# Altium integrated library WE-TPC.IntLib: 262 symbols (part 2 of 3)
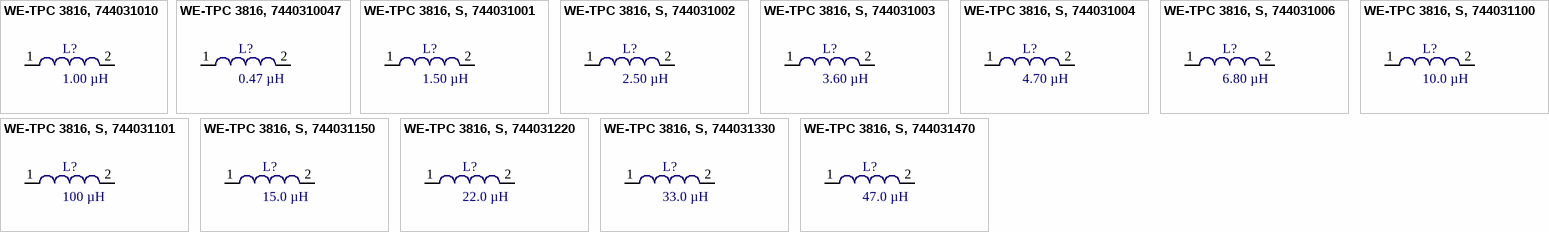
[diagram p16: symbols WE-TPC 3816, 744031010 to WE-TPC 3816, S, 744031470]

## WE-TPC 3816, S, 744031101
designator L?, comment 100 µH
SMD Shielded Tiny Power Inductor WE-TPC, L=100 µH; partNo: 744031101; Manufacturer: Würth Elektronik eiSos GmbH; Inductance: 100 µH; ComponentLink1Description: Manufacturer; ComponentLink1URL: http://www.we-online.de; Created by: Christin Zierenner; Created Date: July 2009; ComponentLink2Description: Datasheet; ComponentLink2URL: http://www.we-online.de/katalog/media/pdf/744031101.pdf
footprint WE-TPC 3816, S (SMD Inductor, 2-Leads, Body 3,8x3,8mm)
pins: 1, 2

## WE-TPC 3816, S, 744031150
designator L?, comment 15.0 µH
SMD Shielded Tiny Power Inductor WE-TPC, L=15.0 µH; partNo: 744031150; Manufacturer: Würth Elektronik eiSos GmbH; Inductance: 15.0 µH; ComponentLink1Description: Manufacturer; ComponentLink1URL: http://www.we-online.de; Created by: Christin Zierenner; Created Date: July 2009; ComponentLink2Description: Datasheet; ComponentLink2URL: http://www.we-online.de/katalog/media/pdf/744031150.pdf
footprint WE-TPC 3816, S (SMD Inductor, 2-Leads, Body 3,8x3,8mm)
pins: 1, 2

## WE-TPC 3816, S, 744031220
designator L?, comment 22.0 µH
SMD Shielded Tiny Power Inductor WE-TPC, L=22.0 µH; partNo: 744031220; Manufacturer: Würth Elektronik eiSos GmbH; Inductance: 22.0 µH; ComponentLink1Description: Manufacturer; ComponentLink1URL: http://www.we-online.de; Created by: Christin Zierenner; Created Date: July 2009; ComponentLink2Description: Datasheet; ComponentLink2URL: http://www.we-online.de/katalog/media/pdf/744031220.pdf
footprint WE-TPC 3816, S (SMD Inductor, 2-Leads, Body 3,8x3,8mm)
pins: 1, 2

## WE-TPC 3816, S, 744031330
designator L?, comment 33.0 µH
SMD Shielded Tiny Power Inductor WE-TPC, L=33.0 µH; partNo: 744031330; Manufacturer: Würth Elektronik eiSos GmbH; Inductance: 33.0 µH; ComponentLink1Description: Manufacturer; ComponentLink1URL: http://www.we-online.de; Created by: Christin Zierenner; Created Date: July 2009; ComponentLink2Description: Datasheet; ComponentLink2URL: http://www.we-online.de/katalog/media/pdf/744031330.pdf
footprint WE-TPC 3816, S (SMD Inductor, 2-Leads, Body 3,8x3,8mm)
pins: 1, 2

## WE-TPC 3816, S, 744031470
designator L?, comment 47.0 µH
SMD Shielded Tiny Power Inductor WE-TPC, L=47.0 µH; partNo: 744031470; Manufacturer: Würth Elektronik eiSos GmbH; Inductance: 47.0 µH; ComponentLink1Description: Manufacturer; ComponentLink1URL: http://www.we-online.de; Created by: Christin Zierenner; Created Date: July 2009; ComponentLink2Description: Datasheet; ComponentLink2URL: http://www.we-online.de/katalog/media/pdf/744031470.pdf
footprint WE-TPC 3816, S (SMD Inductor, 2-Leads, Body 3,8x3,8mm)
pins: 1, 2


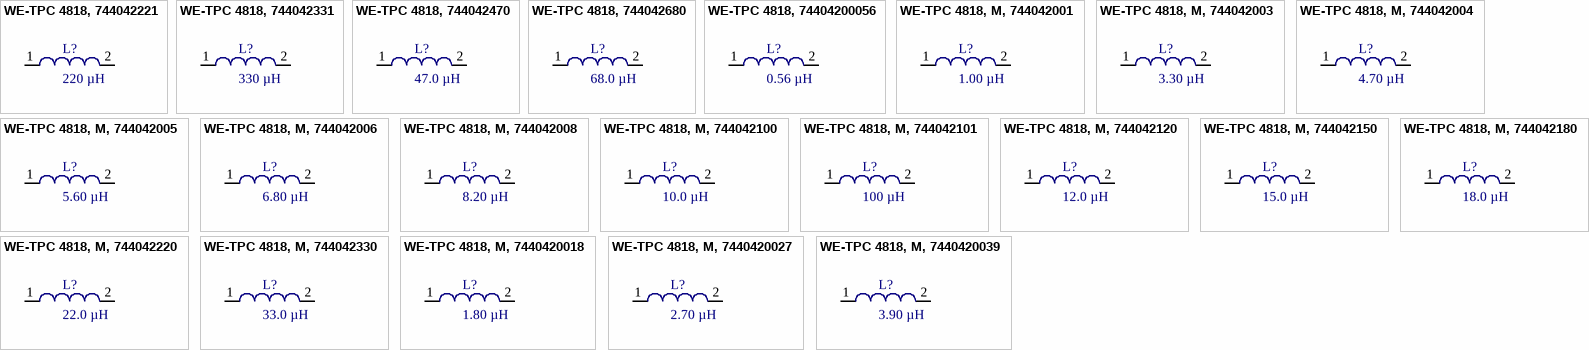
[diagram p7: symbols WE-TPC 4818, 744042221 to WE-TPC 4818, M, 7440420039]

## WE-TPC 4818, 744042221
designator L?, comment 220 µH
SMD Shielded Tiny Power Inductor WE-TPC, L=220 µH; partNo: 744042221; Manufacturer: Würth Elektronik eiSos GmbH; Inductance: 220 µH; ComponentLink1Description: Manufacturer; ComponentLink1URL: http://www.we-online.de; Created by: Christin Otto; Created Date: January 2013; ComponentLink2Description: Datasheet; ComponentLink2URL: http://www.we-online.de/katalog/media/pdf/744042221.pdf
footprint WE-TPC 4818, M (SMD Inductor, 2-Leads, Body 4,8x4,8mm)
pins: 1, 2

## WE-TPC 4818, 744042331
designator L?, comment 330 µH
SMD Shielded Tiny Power Inductor WE-TPC, L=330 µH; partNo: 744042331; Manufacturer: Würth Elektronik eiSos GmbH; Inductance: 330 µH; ComponentLink1Description: Manufacturer; ComponentLink1URL: http://www.we-online.de; Created by: Christin Otto; Created Date: January 2013; ComponentLink2Description: Datasheet; ComponentLink2URL: http://www.we-online.de/katalog/media/pdf/744042331.pdf
footprint WE-TPC 4818, M (SMD Inductor, 2-Leads, Body 4,8x4,8mm)
pins: 1, 2

## WE-TPC 4818, 744042470
designator L?, comment 47.0 µH
SMD Shielded Tiny Power Inductor WE-TPC, L=47.0 µH; partNo: 744042470; Manufacturer: Würth Elektronik eiSos GmbH; Inductance: 47.0 µH; ComponentLink1Description: Manufacturer; ComponentLink1URL: http://www.we-online.de; Created by: Christin Otto; Created Date: January 2013; ComponentLink2Description: Datasheet; ComponentLink2URL: http://www.we-online.de/katalog/media/pdf/744042470.pdf
footprint WE-TPC 4818, M (SMD Inductor, 2-Leads, Body 4,8x4,8mm)
pins: 1, 2

## WE-TPC 4818, 744042680
designator L?, comment 68.0 µH
SMD Shielded Tiny Power Inductor WE-TPC, L=68.0 µH; partNo: 744042680; Manufacturer: Würth Elektronik eiSos GmbH; Inductance: 68.0 µH; ComponentLink1Description: Manufacturer; ComponentLink1URL: http://www.we-online.de; Created by: Christin Otto; Created Date: January 2013; ComponentLink2Description: Datasheet; ComponentLink2URL: http://www.we-online.de/katalog/media/pdf/744042680.pdf
footprint WE-TPC 4818, M (SMD Inductor, 2-Leads, Body 4,8x4,8mm)
pins: 1, 2

## WE-TPC 4818, 74404200056
designator L?, comment 0.56 µH
SMD Shielded Tiny Power Inductor WE-TPC, L=0.56 µH; partNo: 74404200056; Manufacturer: Würth Elektronik eiSos GmbH; Inductance: 0.56 µH; ComponentLink1Description: Manufacturer; ComponentLink1URL: http://www.we-online.de; Created by: Christin Otto; Created Date: January 2013; ComponentLink2Description: Datasheet; ComponentLink2URL: http://www.we-online.de/katalog/media/pdf/74404200056.pdf
footprint WE-TPC 4818, M (SMD Inductor, 2-Leads, Body 4,8x4,8mm)
pins: 1, 2

## WE-TPC 4818, M, 744042001
designator L?, comment 1.00 µH
SMD Shielded Tiny Power Inductor WE-TPC, L=1.00 µH; partNo: 744042001; Manufacturer: Würth Elektronik eiSos GmbH; Inductance: 1.00 µH; ComponentLink1Description: Manufacturer; ComponentLink1URL: http://www.we-online.de; Created by: Christin Zierenner; Created Date: July 2009; ComponentLink2Description: Datasheet; ComponentLink2URL: http://www.we-online.de/katalog/media/pdf/744042001.pdf
footprint WE-TPC 4818, M (SMD Inductor, 2-Leads, Body 4,8x4,8mm)
pins: 1, 2

## WE-TPC 4818, M, 744042003
designator L?, comment 3.30 µH
SMD Shielded Tiny Power Inductor WE-TPC, L=3.30 µH; partNo: 744042003; Manufacturer: Würth Elektronik eiSos GmbH; Inductance: 3.30 µH; ComponentLink1Description: Manufacturer; ComponentLink1URL: http://www.we-online.de; Created by: Christin Zierenner; Created Date: July 2009; ComponentLink2Description: Datasheet; ComponentLink2URL: http://www.we-online.de/katalog/media/pdf/744042003.pdf
footprint WE-TPC 4818, M (SMD Inductor, 2-Leads, Body 4,8x4,8mm)
pins: 1, 2

## WE-TPC 4818, M, 744042004
designator L?, comment 4.70 µH
SMD Shielded Tiny Power Inductor WE-TPC, L=4.70 µH; partNo: 744042004; Manufacturer: Würth Elektronik eiSos GmbH; Inductance: 4.70 µH; ComponentLink1Description: Manufacturer; ComponentLink1URL: http://www.we-online.de; Created by: Christin Zierenner; Created Date: July 2009; ComponentLink2Description: Datasheet; ComponentLink2URL: http://www.we-online.de/katalog/media/pdf/744042004.pdf
footprint WE-TPC 4818, M (SMD Inductor, 2-Leads, Body 4,8x4,8mm)
pins: 1, 2

## WE-TPC 4818, M, 744042005
designator L?, comment 5.60 µH
SMD Shielded Tiny Power Inductor WE-TPC, L=5.60 µH; partNo: 744042005; Manufacturer: Würth Elektronik eiSos GmbH; Inductance: 5.60 µH; ComponentLink1Description: Manufacturer; ComponentLink1URL: http://www.we-online.de; Created by: Christin Zierenner; Created Date: July 2009; ComponentLink2Description: Datasheet; ComponentLink2URL: http://www.we-online.de/katalog/media/pdf/744042005.pdf
footprint WE-TPC 4818, M (SMD Inductor, 2-Leads, Body 4,8x4,8mm)
pins: 1, 2

## WE-TPC 4818, M, 744042006
designator L?, comment 6.80 µH
SMD Shielded Tiny Power Inductor WE-TPC, L=6.80 µH; partNo: 744042006; Manufacturer: Würth Elektronik eiSos GmbH; Inductance: 6.80 µH; ComponentLink1Description: Manufacturer; ComponentLink1URL: http://www.we-online.de; Created by: Christin Zierenner; Created Date: July 2009; ComponentLink2Description: Datasheet; ComponentLink2URL: http://www.we-online.de/katalog/media/pdf/744042006.pdf
footprint WE-TPC 4818, M (SMD Inductor, 2-Leads, Body 4,8x4,8mm)
pins: 1, 2

## WE-TPC 4818, M, 744042008
designator L?, comment 8.20 µH
SMD Shielded Tiny Power Inductor WE-TPC, L=8.20 µH; partNo: 744042008; Manufacturer: Würth Elektronik eiSos GmbH; Inductance: 8.20 µH; ComponentLink1Description: Manufacturer; ComponentLink1URL: http://www.we-online.de; Created by: Christin Zierenner; Created Date: July 2009; ComponentLink2Description: Datasheet; ComponentLink2URL: http://www.we-online.de/katalog/media/pdf/744042008.pdf
footprint WE-TPC 4818, M (SMD Inductor, 2-Leads, Body 4,8x4,8mm)
pins: 1, 2

## WE-TPC 4818, M, 744042100
designator L?, comment 10.0 µH
SMD Shielded Tiny Power Inductor WE-TPC, L=10.0 µH; partNo: 744042100; Manufacturer: Würth Elektronik eiSos GmbH; Inductance: 10.0 µH; ComponentLink1Description: Manufacturer; ComponentLink1URL: http://www.we-online.de; Created by: Christin Zierenner; Created Date: July 2009; ComponentLink2Description: Datasheet; ComponentLink2URL: http://www.we-online.de/katalog/media/pdf/744042100.pdf
footprint WE-TPC 4818, M (SMD Inductor, 2-Leads, Body 4,8x4,8mm)
pins: 1, 2

## WE-TPC 4818, M, 744042101
designator L?, comment 100 µH
SMD Shielded Tiny Power Inductor WE-TPC, L=100 µH; partNo: 744042101; Manufacturer: Würth Elektronik eiSos GmbH; Inductance: 100 µH; ComponentLink1Description: Manufacturer; ComponentLink1URL: http://www.we-online.de; Created by: Christin Zierenner; Created Date: July 2009; ComponentLink2Description: Datasheet; ComponentLink2URL: http://www.we-online.de/katalog/media/pdf/744042101.pdf
footprint WE-TPC 4818, M (SMD Inductor, 2-Leads, Body 4,8x4,8mm)
pins: 1, 2

## WE-TPC 4818, M, 744042120
designator L?, comment 12.0 µH
SMD Shielded Tiny Power Inductor WE-TPC, L=12.0 µH; partNo: 744042120; Manufacturer: Würth Elektronik eiSos GmbH; Inductance: 12.0 µH; ComponentLink1Description: Manufacturer; ComponentLink1URL: http://www.we-online.de; Created by: Christin Zierenner; Created Date: July 2009; ComponentLink2Description: Datasheet; ComponentLink2URL: http://www.we-online.de/katalog/media/pdf/744042120.pdf
footprint WE-TPC 4818, M (SMD Inductor, 2-Leads, Body 4,8x4,8mm)
pins: 1, 2

## WE-TPC 4818, M, 744042150
designator L?, comment 15.0 µH
SMD Shielded Tiny Power Inductor WE-TPC, L=15.0 µH; partNo: 744042150; Manufacturer: Würth Elektronik eiSos GmbH; Inductance: 15.0 µH; ComponentLink1Description: Manufacturer; ComponentLink1URL: http://www.we-online.de; Created by: Christin Zierenner; Created Date: July 2009; ComponentLink2Description: Datasheet; ComponentLink2URL: http://www.we-online.de/katalog/media/pdf/744042150.pdf
footprint WE-TPC 4818, M (SMD Inductor, 2-Leads, Body 4,8x4,8mm)
pins: 1, 2

## WE-TPC 4818, M, 744042180
designator L?, comment 18.0 µH
SMD Shielded Tiny Power Inductor WE-TPC, L=18.0 µH; partNo: 744042180; Manufacturer: Würth Elektronik eiSos GmbH; Inductance: 18.0 µH; ComponentLink1Description: Manufacturer; ComponentLink1URL: http://www.we-online.de; Created by: Christin Zierenner; Created Date: July 2009; ComponentLink2Description: Datasheet; ComponentLink2URL: http://www.we-online.de/katalog/media/pdf/744042180.pdf
footprint WE-TPC 4818, M (SMD Inductor, 2-Leads, Body 4,8x4,8mm)
pins: 1, 2

## WE-TPC 4818, M, 744042220
designator L?, comment 22.0 µH
SMD Shielded Tiny Power Inductor WE-TPC, L=22.0 µH; partNo: 744042220; Manufacturer: Würth Elektronik eiSos GmbH; Inductance: 22.0 µH; ComponentLink1Description: Manufacturer; ComponentLink1URL: http://www.we-online.de; Created by: Christin Zierenner; Created Date: July 2009; ComponentLink2Description: Datasheet; ComponentLink2URL: http://www.we-online.de/katalog/media/pdf/744042220.pdf
footprint WE-TPC 4818, M (SMD Inductor, 2-Leads, Body 4,8x4,8mm)
pins: 1, 2

## WE-TPC 4818, M, 744042330
designator L?, comment 33.0 µH
SMD Shielded Tiny Power Inductor WE-TPC, L=33.0 µH; partNo: 744042330; Manufacturer: Würth Elektronik eiSos GmbH; Inductance: 33.0 µH; ComponentLink1Description: Manufacturer; ComponentLink1URL: http://www.we-online.de; Created by: Christin Zierenner; Created Date: July 2009; ComponentLink2Description: Datasheet; ComponentLink2URL: http://www.we-online.de/katalog/media/pdf/744042330.pdf
footprint WE-TPC 4818, M (SMD Inductor, 2-Leads, Body 4,8x4,8mm)
pins: 1, 2

## WE-TPC 4818, M, 7440420018
designator L?, comment 1.80 µH
SMD Shielded Tiny Power Inductor WE-TPC, L=1.80 µH; partNo: 7440420018; Manufacturer: Würth Elektronik eiSos GmbH; Inductance: 1.80 µH; ComponentLink1Description: Manufacturer; ComponentLink1URL: http://www.we-online.de; Created by: Christin Zierenner; Created Date: July 2009; ComponentLink2Description: Datasheet; ComponentLink2URL: http://www.we-online.de/katalog/media/pdf/7440420018.pdf
footprint WE-TPC 4818, M (SMD Inductor, 2-Leads, Body 4,8x4,8mm)
pins: 1, 2

## WE-TPC 4818, M, 7440420027
designator L?, comment 2.70 µH
SMD Shielded Tiny Power Inductor WE-TPC, L=2.70 µH; partNo: 7440420027; Manufacturer: Würth Elektronik eiSos GmbH; Inductance: 2.70 µH; ComponentLink1Description: Manufacturer; ComponentLink1URL: http://www.we-online.de; Created by: Christin Zierenner; Created Date: July 2009; ComponentLink2Description: Datasheet; ComponentLink2URL: http://www.we-online.de/katalog/media/pdf/7440420027.pdf
footprint WE-TPC 4818, M (SMD Inductor, 2-Leads, Body 4,8x4,8mm)
pins: 1, 2

## WE-TPC 4818, M, 7440420039
designator L?, comment 3.90 µH
SMD Shielded Tiny Power Inductor WE-TPC, L=3.90 µH; partNo: 7440420039; Manufacturer: Würth Elektronik eiSos GmbH; Inductance: 3.90 µH; ComponentLink1Description: Manufacturer; ComponentLink1URL: http://www.we-online.de; Created by: Christin Zierenner; Created Date: July 2009; ComponentLink2Description: Datasheet; ComponentLink2URL: http://www.we-online.de/katalog/media/pdf/7440420039.pdf
footprint WE-TPC 4818, M (SMD Inductor, 2-Leads, Body 4,8x4,8mm)
pins: 1, 2


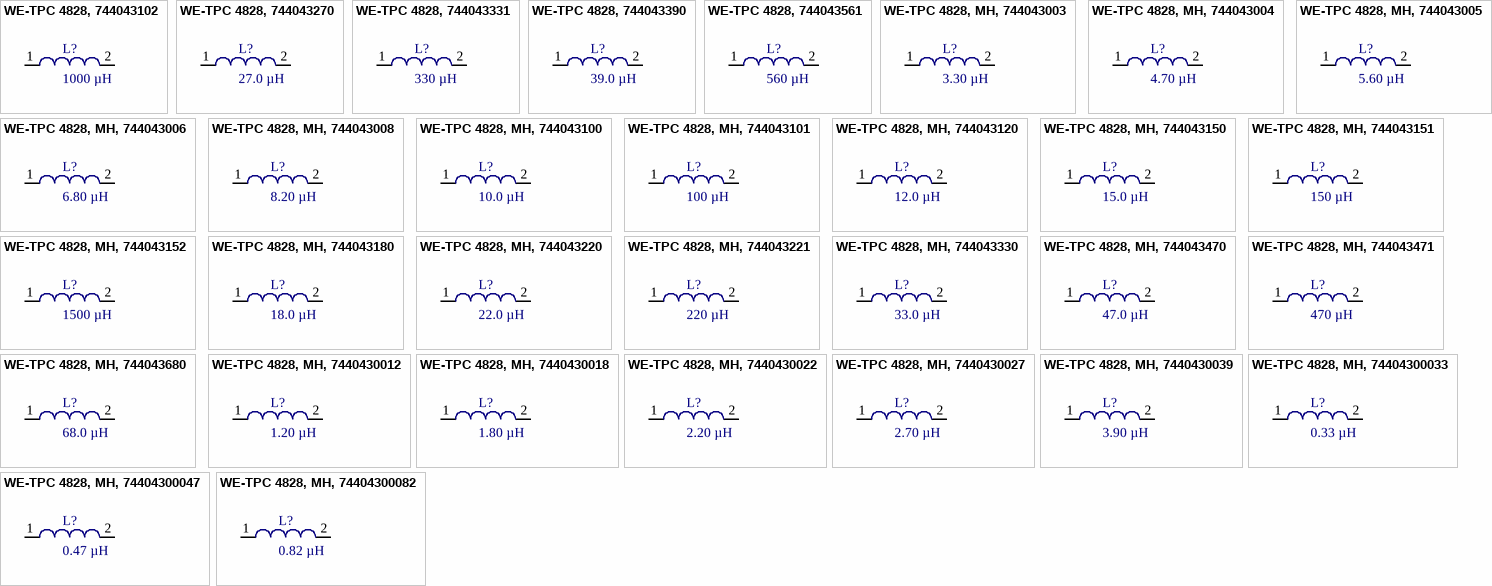
[diagram p8: symbols WE-TPC 4828, 744043102 to WE-TPC 4828, MH, 74404300082]

## WE-TPC 4828, 744043102
designator L?, comment 1000 µH
SMD Shielded Tiny Power Inductor WE-TPC, L=1000 µH; partNo: 744043102; Manufacturer: Würth Elektronik eiSos GmbH; Inductance: 1000 µH; ComponentLink1Description: Manufacturer; ComponentLink1URL: http://www.we-online.de; Created by: Christin Otto; Created Date: January 2013; ComponentLink2Description: Datasheet; ComponentLink2URL: http://katalog.we-online.de/pbs/datasheet/744043102.pdf
footprint WE-TPC 4828, MH (SMD Inductor, 2-Leads, Body 4,8x4,8mm)
pins: 1, 2

## WE-TPC 4828, 744043270
designator L?, comment 27.0 µH
SMD Shielded Tiny Power Inductor WE-TPC, L=27.0 µH; partNo: 744043270; Manufacturer: Würth Elektronik eiSos GmbH; Inductance: 27.0 µH; ComponentLink1Description: Manufacturer; ComponentLink1URL: http://www.we-online.de; Created by: Christin Otto; Created Date: January 2013; ComponentLink2Description: Datasheet; ComponentLink2URL: http://katalog.we-online.de/pbs/datasheet/744043270.pdf
footprint WE-TPC 4828, MH (SMD Inductor, 2-Leads, Body 4,8x4,8mm)
pins: 1, 2

## WE-TPC 4828, 744043331
designator L?, comment 330 µH
SMD Shielded Tiny Power Inductor WE-TPC, L=330 µH; partNo: 744043331; Manufacturer: Würth Elektronik eiSos GmbH; Inductance: 330 µH; ComponentLink1Description: Manufacturer; ComponentLink1URL: http://www.we-online.de; Created by: Christin Otto; Created Date: January 2013; ComponentLink2Description: Datasheet; ComponentLink2URL: http://katalog.we-online.de/pbs/datasheet/744043331.pdf
footprint WE-TPC 4828, MH (SMD Inductor, 2-Leads, Body 4,8x4,8mm)
pins: 1, 2

## WE-TPC 4828, 744043390
designator L?, comment 39.0 µH
SMD Shielded Tiny Power Inductor WE-TPC, L=39.0 µH; partNo: 744043390; Manufacturer: Würth Elektronik eiSos GmbH; Inductance: 39.0 µH; ComponentLink1Description: Manufacturer; ComponentLink1URL: http://www.we-online.de; Created by: Christin Otto; Created Date: January 2013; ComponentLink2Description: Datasheet; ComponentLink2URL: http://katalog.we-online.de/pbs/datasheet/744043390.pdf
footprint WE-TPC 4828, MH (SMD Inductor, 2-Leads, Body 4,8x4,8mm)
pins: 1, 2

## WE-TPC 4828, 744043561
designator L?, comment 560 µH
SMD Shielded Tiny Power Inductor WE-TPC, L=560 µH; partNo: 744043561; Manufacturer: Würth Elektronik eiSos GmbH; Inductance: 560 µH; ComponentLink1Description: Manufacturer; ComponentLink1URL: http://www.we-online.de; Created by: Christin Otto; Created Date: January 2013; ComponentLink2Description: Datasheet; ComponentLink2URL: http://katalog.we-online.de/pbs/datasheet/744043561.pdf
footprint WE-TPC 4828, MH (SMD Inductor, 2-Leads, Body 4,8x4,8mm)
pins: 1, 2

## WE-TPC 4828, MH, 744043003
designator L?, comment 3.30 µH
SMD Shielded Tiny Power Inductor WE-TPC, L=3.30µH; partNo: 744043003; Manufacturer: Würth Elektronik eiSos GmbH; Inductance: 3.30 µH; ComponentLink1Description: Manufacturer; ComponentLink1URL: http://www.we-online.de; Created by: Christin Zierenner; Created Date: July 2009; ComponentLink2Description: Datasheet; ComponentLink2URL: http://www.we-online.de/katalog/media/pdf/744043003.pdf
footprint WE-TPC 4828, MH (SMD Inductor, 2-Leads, Body 4,8x4,8mm)
pins: 1, 2

## WE-TPC 4828, MH, 744043004
designator L?, comment 4.70 µH
SMD Shielded Tiny Power Inductor WE-TPC, L=4.70 µH; partNo: 744043004; Manufacturer: Würth Elektronik eiSos GmbH; Inductance: 4.70 µH; ComponentLink1Description: Manufacturer; ComponentLink1URL: http://www.we-online.de; Created by: Christin Zierenner; Created Date: July 2009; ComponentLink2Description: Datasheet; ComponentLink2URL: http://www.we-online.de/katalog/media/pdf/744043004.pdf
footprint WE-TPC 4828, MH (SMD Inductor, 2-Leads, Body 4,8x4,8mm)
pins: 1, 2

## WE-TPC 4828, MH, 744043005
designator L?, comment 5.60 µH
SMD Shielded Tiny Power Inductor WE-TPC, L=5.60 µH; partNo: 744043005; Manufacturer: Würth Elektronik eiSos GmbH; Inductance: 5.60 µH; ComponentLink1Description: Manufacturer; ComponentLink1URL: http://www.we-online.de; Created by: Christin Zierenner; Created Date: July 2009; ComponentLink2Description: Datasheet; ComponentLink2URL: http://www.we-online.de/katalog/media/pdf/744043005.pdf
footprint WE-TPC 4828, MH (SMD Inductor, 2-Leads, Body 4,8x4,8mm)
pins: 1, 2

## WE-TPC 4828, MH, 744043006
designator L?, comment 6.80 µH
SMD Shielded Tiny Power Inductor WE-TPC, L=6.80 µH; partNo: 744043006; Manufacturer: Würth Elektronik eiSos GmbH; Inductance: 6.80 µH; ComponentLink1Description: Manufacturer; ComponentLink1URL: http://www.we-online.de; Created by: Christin Zierenner; Created Date: July 2009; ComponentLink2Description: Datasheet; ComponentLink2URL: http://www.we-online.de/katalog/media/pdf/744043006.pdf
footprint WE-TPC 4828, MH (SMD Inductor, 2-Leads, Body 4,8x4,8mm)
pins: 1, 2

## WE-TPC 4828, MH, 744043008
designator L?, comment 8.20 µH
SMD Shielded Tiny Power Inductor WE-TPC, L=8.20 µH; partNo: 744043008; Manufacturer: Würth Elektronik eiSos GmbH; Inductance: 8.20 µH; ComponentLink1Description: Manufacturer; ComponentLink1URL: http://www.we-online.de; Created by: Christin Zierenner; Created Date: July 2009; ComponentLink2Description: Datasheet; ComponentLink2URL: http://www.we-online.de/katalog/media/pdf/744043008.pdf
footprint WE-TPC 4828, MH (SMD Inductor, 2-Leads, Body 4,8x4,8mm)
pins: 1, 2

## WE-TPC 4828, MH, 744043100
designator L?, comment 10.0 µH
SMD Shielded Tiny Power Inductor WE-TPC, L=10.0 µH; partNo: 744043100; Manufacturer: Würth Elektronik eiSos GmbH; Inductance: 10.0 µH; ComponentLink1Description: Manufacturer; ComponentLink1URL: http://www.we-online.de; Created by: Christin Zierenner; Created Date: July 2009; ComponentLink2Description: Datasheet; ComponentLink2URL: http://www.we-online.de/katalog/media/pdf/744043100.pdf
footprint WE-TPC 4828, MH (SMD Inductor, 2-Leads, Body 4,8x4,8mm)
pins: 1, 2

## WE-TPC 4828, MH, 744043101
designator L?, comment 100 µH
SMD Shielded Tiny Power Inductor WE-TPC, L=100 µH; partNo: 744043101; Manufacturer: Würth Elektronik eiSos GmbH; Inductance: 100 µH; ComponentLink1Description: Manufacturer; ComponentLink1URL: http://www.we-online.de; Created by: Christin Zierenner; Created Date: July 2009; ComponentLink2Description: Datasheet; ComponentLink2URL: http://www.we-online.de/katalog/media/pdf/744043101.pdf
footprint WE-TPC 4828, MH (SMD Inductor, 2-Leads, Body 4,8x4,8mm)
pins: 1, 2

## WE-TPC 4828, MH, 744043120
designator L?, comment 12.0 µH
SMD Shielded Tiny Power Inductor WE-TPC, L=12.0 µH; partNo: 744043120; Manufacturer: Würth Elektronik eiSos GmbH; Inductance: 12.0 µH; ComponentLink1Description: Manufacturer; ComponentLink1URL: http://www.we-online.de; Created by: Christin Zierenner; Created Date: July 2009; ComponentLink2Description: Datasheet; ComponentLink2URL: http://www.we-online.de/katalog/media/pdf/744043120.pdf
footprint WE-TPC 4828, MH (SMD Inductor, 2-Leads, Body 4,8x4,8mm)
pins: 1, 2

## WE-TPC 4828, MH, 744043150
designator L?, comment 15.0 µH
SMD Shielded Tiny Power Inductor WE-TPC, L=15.0 µH; partNo: 744043150; Manufacturer: Würth Elektronik eiSos GmbH; Inductance: 15.0 µH; ComponentLink1Description: Manufacturer; ComponentLink1URL: http://www.we-online.de; Created by: Christin Zierenner; Created Date: July 2009; ComponentLink2Description: Datasheet; ComponentLink2URL: http://www.we-online.de/katalog/media/pdf/744043150.pdf
footprint WE-TPC 4828, MH (SMD Inductor, 2-Leads, Body 4,8x4,8mm)
pins: 1, 2

## WE-TPC 4828, MH, 744043151
designator L?, comment 150 µH
SMD Shielded Tiny Power Inductor WE-TPC, L=150 µH; partNo: 744043151; Manufacturer: Würth Elektronik eiSos GmbH; Inductance: 150 µH; ComponentLink1Description: Manufacturer; ComponentLink1URL: http://www.we-online.de; Created by: Christin Zierenner; Created Date: July 2009; ComponentLink2Description: Datasheet; ComponentLink2URL: http://www.we-online.de/katalog/media/pdf/744043151.pdf
footprint WE-TPC 4828, MH (SMD Inductor, 2-Leads, Body 4,8x4,8mm)
pins: 1, 2

## WE-TPC 4828, MH, 744043152
designator L?, comment 1500 µH
SMD Shielded Tiny Power Inductor WE-TPC, L=1500 µH; partNo: 744043152; Manufacturer: Würth Elektronik eiSos GmbH; Inductance: 1500 µH; ComponentLink1Description: Manufacturer; ComponentLink1URL: http://www.we-online.de; Created by: Christin Zierenner; Created Date: July 2009; ComponentLink2Description: Datasheet; ComponentLink2URL: http://www.we-online.de/katalog/media/pdf/744043152.pdf
footprint WE-TPC 4828, MH (SMD Inductor, 2-Leads, Body 4,8x4,8mm)
pins: 1, 2

## WE-TPC 4828, MH, 744043180
designator L?, comment 18.0 µH
SMD Shielded Tiny Power Inductor WE-TPC, L=18.0 µH; partNo: 744043180; Manufacturer: Würth Elektronik eiSos GmbH; Inductance: 18.0 µH; ComponentLink1Description: Manufacturer; ComponentLink1URL: http://www.we-online.de; Created by: Christin Zierenner; Created Date: July 2009; ComponentLink2Description: Datasheet; ComponentLink2URL: http://www.we-online.de/katalog/media/pdf/744043180.pdf
footprint WE-TPC 4828, MH (SMD Inductor, 2-Leads, Body 4,8x4,8mm)
pins: 1, 2

## WE-TPC 4828, MH, 744043220
designator L?, comment 22.0 µH
SMD Shielded Tiny Power Inductor WE-TPC, L=22.0 µH; partNo: 744043220; Manufacturer: Würth Elektronik eiSos GmbH; Inductance: 22.0 µH; ComponentLink1Description: Manufacturer; ComponentLink1URL: http://www.we-online.de; Created by: Christin Zierenner; Created Date: July 2009; ComponentLink2Description: Datasheet; ComponentLink2URL: http://www.we-online.de/katalog/media/pdf/744043220.pdf
footprint WE-TPC 4828, MH (SMD Inductor, 2-Leads, Body 4,8x4,8mm)
pins: 1, 2

## WE-TPC 4828, MH, 744043221
designator L?, comment 220 µH
SMD Shielded Tiny Power Inductor WE-TPC, L=220 µH; partNo: 744043221; Manufacturer: Würth Elektronik eiSos GmbH; Inductance: 220 µH; ComponentLink1Description: Manufacturer; ComponentLink1URL: http://www.we-online.de; Created by: Christin Zierenner; Created Date: July 2009; ComponentLink2Description: Datasheet; ComponentLink2URL: http://www.we-online.de/katalog/media/pdf/744043221.pdf
footprint WE-TPC 4828, MH (SMD Inductor, 2-Leads, Body 4,8x4,8mm)
pins: 1, 2

## WE-TPC 4828, MH, 744043330
designator L?, comment 33.0 µH
SMD Shielded Tiny Power Inductor WE-TPC, L=33.0 µH; partNo: 744043330; Manufacturer: Würth Elektronik eiSos GmbH; Inductance: 33.0 µH; ComponentLink1Description: Manufacturer; ComponentLink1URL: http://www.we-online.de; Created by: Christin Zierenner; Created Date: July 2009; ComponentLink2Description: Datasheet; ComponentLink2URL: http://www.we-online.de/katalog/media/pdf/744043330.pdf
footprint WE-TPC 4828, MH (SMD Inductor, 2-Leads, Body 4,8x4,8mm)
pins: 1, 2

## WE-TPC 4828, MH, 744043470
designator L?, comment 47.0 µH
SMD Shielded Tiny Power Inductor WE-TPC, L=47.0 µH; partNo: 744043470; Manufacturer: Würth Elektronik eiSos GmbH; Inductance: 47.0 µH; ComponentLink1Description: Manufacturer; ComponentLink1URL: http://www.we-online.de; Created by: Christin Zierenner; Created Date: July 2009; ComponentLink2Description: Datasheet; ComponentLink2URL: http://www.we-online.de/katalog/media/pdf/744043470.pdf
footprint WE-TPC 4828, MH (SMD Inductor, 2-Leads, Body 4,8x4,8mm)
pins: 1, 2

## WE-TPC 4828, MH, 744043471
designator L?, comment 470 µH
SMD Shielded Tiny Power Inductor WE-TPC, L=470 µH; partNo: 744043471; Manufacturer: Würth Elektronik eiSos GmbH; Inductance: 470 µH; ComponentLink1Description: Manufacturer; ComponentLink1URL: http://www.we-online.de; Created by: Christin Zierenner; Created Date: July 2009; ComponentLink2Description: Datasheet; ComponentLink2URL: http://www.we-online.de/katalog/media/pdf/744043471.pdf
footprint WE-TPC 4828, MH (SMD Inductor, 2-Leads, Body 4,8x4,8mm)
pins: 1, 2

## WE-TPC 4828, MH, 744043680
designator L?, comment 68.0 µH
SMD Shielded Tiny Power Inductor WE-TPC, L=68.0 µH; partNo: 744043680; Manufacturer: Würth Elektronik eiSos GmbH; Inductance: 68.0 µH; ComponentLink1Description: Manufacturer; ComponentLink1URL: http://www.we-online.de; Created by: Christin Zierenner; Created Date: July 2009; ComponentLink2Description: Datasheet; ComponentLink2URL: http://www.we-online.de/katalog/media/pdf/744043680.pdf
footprint WE-TPC 4828, MH (SMD Inductor, 2-Leads, Body 4,8x4,8mm)
pins: 1, 2

## WE-TPC 4828, MH, 7440430012
designator L?, comment 1.20 µH
SMD Shielded Tiny Power Inductor WE-TPC, L=1.20 µH; partNo: 7440430012; Manufacturer: Würth Elektronik eiSos GmbH; Inductance: 1.20 µH; ComponentLink1Description: Manufacturer; ComponentLink1URL: http://www.we-online.de; Created by: Christin Zierenner; Created Date: July 2009; ComponentLink2Description: Datasheet; ComponentLink2URL: http://www.we-online.de/katalog/media/pdf/7440430012.pdf
footprint WE-TPC 4828, MH (SMD Inductor, 2-Leads, Body 4,8x4,8mm)
pins: 1, 2

## WE-TPC 4828, MH, 7440430018
designator L?, comment 1.80 µH
SMD Shielded Tiny Power Inductor WE-TPC, L=1.80 µH; partNo: 7440430018; Manufacturer: Würth Elektronik eiSos GmbH; Inductance: 1.80 µH; ComponentLink1Description: Manufacturer; ComponentLink1URL: http://www.we-online.de; Created by: Christin Zierenner; Created Date: July 2009; ComponentLink2Description: Datasheet; ComponentLink2URL: http://www.we-online.de/katalog/media/pdf/7440430018.pdf
footprint WE-TPC 4828, MH (SMD Inductor, 2-Leads, Body 4,8x4,8mm)
pins: 1, 2

## WE-TPC 4828, MH, 7440430022
designator L?, comment 2.20 µH
SMD Shielded Tiny Power Inductor WE-TPC, L=2.20 µH; partNo: 7440430022; Manufacturer: Würth Elektronik eiSos GmbH; Inductance: 2.20 µH; ComponentLink1Description: Manufacturer; ComponentLink1URL: http://www.we-online.de; Created by: Christin Zierenner; Created Date: July 2009; ComponentLink2Description: Datasheet; ComponentLink2URL: http://www.we-online.de/katalog/media/pdf/7440430022.pdf
footprint WE-TPC 4828, MH (SMD Inductor, 2-Leads, Body 4,8x4,8mm)
pins: 1, 2

## WE-TPC 4828, MH, 7440430027
designator L?, comment 2.70 µH
SMD Shielded Tiny Power Inductor WE-TPC, L=2.70 µH; partNo: 7440430027; Manufacturer: Würth Elektronik eiSos GmbH; Inductance: 2.70 µH; ComponentLink1Description: Manufacturer; ComponentLink1URL: http://www.we-online.de; Created by: Christin Zierenner; Created Date: July 2009; ComponentLink2Description: Datasheet; ComponentLink2URL: http://www.we-online.de/katalog/media/pdf/7440430027.pdf
footprint WE-TPC 4828, MH (SMD Inductor, 2-Leads, Body 4,8x4,8mm)
pins: 1, 2

## WE-TPC 4828, MH, 7440430039
designator L?, comment 3.90 µH
SMD Shielded Tiny Power Inductor WE-TPC, L=3.90 µH; partNo: 7440430039; Manufacturer: Würth Elektronik eiSos GmbH; Inductance: 3.90 µH; ComponentLink1Description: Manufacturer; ComponentLink1URL: http://www.we-online.de; Created by: Christin Zierenner; Created Date: July 2009; ComponentLink2Description: Datasheet; ComponentLink2URL: http://www.we-online.de/katalog/media/pdf/7440430039.pdf
footprint WE-TPC 4828, MH (SMD Inductor, 2-Leads, Body 4,8x4,8mm)
pins: 1, 2

## WE-TPC 4828, MH, 74404300033
designator L?, comment 0.33 µH
SMD Shielded Tiny Power Inductor WE-TPC, L=0.33 µH; partNo: 74404300033; Manufacturer: Würth Elektronik eiSos GmbH; Inductance: 0.33 µH; ComponentLink1Description: Manufacturer; ComponentLink1URL: http://www.we-online.de; Created by: Christin Zierenner; Created Date: July 2009; ComponentLink2Description: Datasheet; ComponentLink2URL: http://www.we-online.de/katalog/media/pdf/74404300033.pdf
footprint WE-TPC 4828, MH (SMD Inductor, 2-Leads, Body 4,8x4,8mm)
pins: 1, 2

## WE-TPC 4828, MH, 74404300047
designator L?, comment 0.47 µH
SMD Shielded Tiny Power Inductor WE-TPC, L=0.47 µH; partNo: 74404300047; Manufacturer: Würth Elektronik eiSos GmbH; Inductance: 0.47 µH; ComponentLink1Description: Manufacturer; ComponentLink1URL: http://www.we-online.de; Created by: Christin Zierenner; Created Date: July 2009; ComponentLink2Description: Datasheet; ComponentLink2URL: http://www.we-online.de/katalog/media/pdf/74404300047.pdf
footprint WE-TPC 4828, MH (SMD Inductor, 2-Leads, Body 4,8x4,8mm)
pins: 1, 2

## WE-TPC 4828, MH, 74404300082
designator L?, comment 0.82 µH
SMD Shielded Tiny Power Inductor WE-TPC, L=0.82 µH; partNo: 74404300082; Manufacturer: Würth Elektronik eiSos GmbH; Inductance: 0.82 µH; ComponentLink1Description: Manufacturer; ComponentLink1URL: http://www.we-online.de; Created by: Christin Zierenner; Created Date: July 2009; ComponentLink2Description: Datasheet; ComponentLink2URL: http://www.we-online.de/katalog/media/pdf/74404300082.pdf
footprint WE-TPC 4828, MH (SMD Inductor, 2-Leads, Body 4,8x4,8mm)
pins: 1, 2


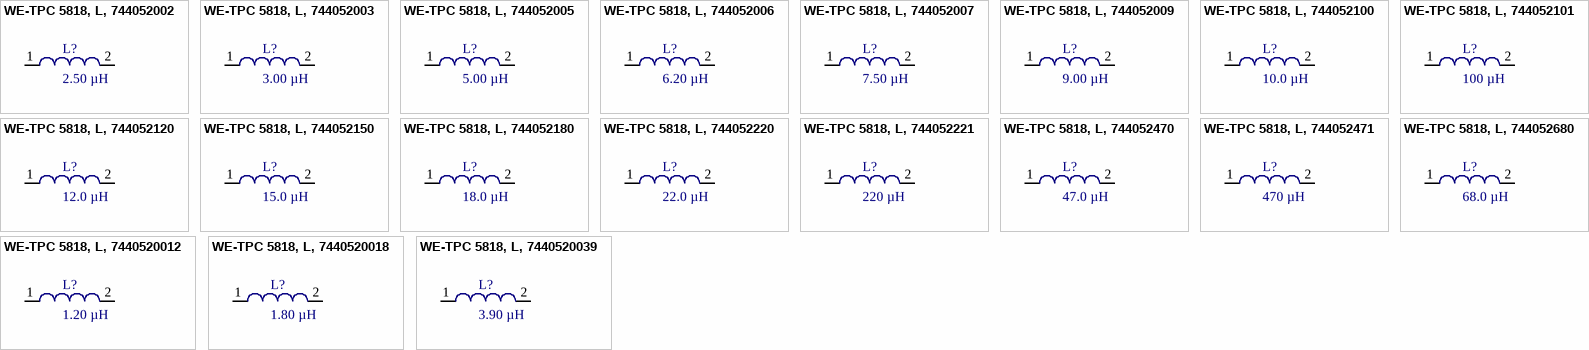
[diagram p9: symbols WE-TPC 5818, L, 744052002 to WE-TPC 5818, L, 7440520039]

## WE-TPC 5818, L, 744052002
designator L?, comment 2.50 µH
SMD Shielded Tiny Power Inductor WE-TPC, L=2.50 µH; partNo: 744052002; Manufacturer: Würth Elektronik eiSos GmbH; Inductance: 2.50 µH; ComponentLink1Description: Manufacturer; ComponentLink1URL: http://www.we-online.de; Created by: Christin Zierenner; Created Date: July 2009; ComponentLink2Description: Datasheet; ComponentLink2URL: http://www.we-online.de/katalog/media/pdf/744052002.pdf
footprint WE-TPC 5818, L (SMD Inductor, 2-Leads, Body 5,8x5,8mm)
pins: 1, 2

## WE-TPC 5818, L, 744052003
designator L?, comment 3.00 µH
SMD Shielded Tiny Power Inductor WE-TPC, L=3.00 µH; partNo: 744052003; Manufacturer: Würth Elektronik eiSos GmbH; Inductance: 3.00 µH; ComponentLink1Description: Manufacturer; ComponentLink1URL: http://www.we-online.de; Created by: Christin Zierenner; Created Date: July 2009; ComponentLink2Description: Datasheet; ComponentLink2URL: http://www.we-online.de/katalog/media/pdf/744052003.pdf
footprint WE-TPC 5818, L (SMD Inductor, 2-Leads, Body 5,8x5,8mm)
pins: 1, 2

## WE-TPC 5818, L, 744052005
designator L?, comment 5.00 µH
SMD Shielded Tiny Power Inductor WE-TPC, L=5.00 µH; partNo: 744052005; Manufacturer: Würth Elektronik eiSos GmbH; Inductance: 5.00 µH; ComponentLink1Description: Manufacturer; ComponentLink1URL: http://www.we-online.de; Created by: Christin Zierenner; Created Date: July 2009; ComponentLink2Description: Datasheet; ComponentLink2URL: http://www.we-online.de/katalog/media/pdf/744052005.pdf
footprint WE-TPC 5818, L (SMD Inductor, 2-Leads, Body 5,8x5,8mm)
pins: 1, 2

## WE-TPC 5818, L, 744052006
designator L?, comment 6.20 µH
SMD Shielded Tiny Power Inductor WE-TPC, L=6.20 µH; partNo: 744052006; Manufacturer: Würth Elektronik eiSos GmbH; Inductance: 6.20 µH; ComponentLink1Description: Manufacturer; ComponentLink1URL: http://www.we-online.de; Created by: Christin Zierenner; Created Date: July 2009; ComponentLink2Description: Datasheet; ComponentLink2URL: http://www.we-online.de/katalog/media/pdf/744052006.pdf
footprint WE-TPC 5818, L (SMD Inductor, 2-Leads, Body 5,8x5,8mm)
pins: 1, 2

## WE-TPC 5818, L, 744052007
designator L?, comment 7.50 µH
SMD Shielded Tiny Power Inductor WE-TPC, L=7.50 µH; partNo: 744052007; Manufacturer: Würth Elektronik eiSos GmbH; Inductance: 7.50 µH; ComponentLink1Description: Manufacturer; ComponentLink1URL: http://www.we-online.de; Created by: Christin Zierenner; Created Date: July 2009; ComponentLink2Description: Datasheet; ComponentLink2URL: http://www.we-online.de/katalog/media/pdf/744052007.pdf
footprint WE-TPC 5818, L (SMD Inductor, 2-Leads, Body 5,8x5,8mm)
pins: 1, 2

## WE-TPC 5818, L, 744052009
designator L?, comment 9.00 µH
SMD Shielded Tiny Power Inductor WE-TPC, L=9.00 µH; partNo: 744052009; Manufacturer: Würth Elektronik eiSos GmbH; Inductance: 9.00 µH; ComponentLink1Description: Manufacturer; ComponentLink1URL: http://www.we-online.de; Created by: Christin Zierenner; Created Date: July 2009; ComponentLink2Description: Datasheet; ComponentLink2URL: http://www.we-online.de/katalog/media/pdf/744052009.pdf
footprint WE-TPC 5818, L (SMD Inductor, 2-Leads, Body 5,8x5,8mm)
pins: 1, 2

## WE-TPC 5818, L, 744052100
designator L?, comment 10.0 µH
SMD Shielded Tiny Power Inductor WE-TPC, L=10.0 µH; partNo: 744052100; Manufacturer: Würth Elektronik eiSos GmbH; Inductance: 10.0 µH; ComponentLink1Description: Manufacturer; ComponentLink1URL: http://www.we-online.de; Created by: Christin Zierenner; Created Date: July 2009; ComponentLink2Description: Datasheet; ComponentLink2URL: http://www.we-online.de/katalog/media/pdf/744052100.pdf
footprint WE-TPC 5818, L (SMD Inductor, 2-Leads, Body 5,8x5,8mm)
pins: 1, 2

## WE-TPC 5818, L, 744052101
designator L?, comment 100 µH
SMD Shielded Tiny Power Inductor WE-TPC, L=100 µH; partNo: 744052101; Manufacturer: Würth Elektronik eiSos GmbH; Inductance: 100 µH; ComponentLink1Description: Manufacturer; ComponentLink1URL: http://www.we-online.de; Created by: Christin Otto; Created Date: January 2013; ComponentLink2Description: Datasheet; ComponentLink2URL: http://www.we-online.de/katalog/media/pdf/744052101.pdf
footprint WE-TPC 5818, L (SMD Inductor, 2-Leads, Body 5,8x5,8mm)
pins: 1, 2

## WE-TPC 5818, L, 744052120
designator L?, comment 12.0 µH
SMD Shielded Tiny Power Inductor WE-TPC, L=12.0 µH; partNo: 744052120; Manufacturer: Würth Elektronik eiSos GmbH; Inductance: 12.0 µH; ComponentLink1Description: Manufacturer; ComponentLink1URL: http://www.we-online.de; Created by: Christin Zierenner; Created Date: July 2009; ComponentLink2Description: Datasheet; ComponentLink2URL: http://www.we-online.de/katalog/media/pdf/744052120.pdf
footprint WE-TPC 5818, L (SMD Inductor, 2-Leads, Body 5,8x5,8mm)
pins: 1, 2

## WE-TPC 5818, L, 744052150
designator L?, comment 15.0 µH
SMD Shielded Tiny Power Inductor WE-TPC, L=15.0 µH; partNo: 744052150; Manufacturer: Würth Elektronik eiSos GmbH; Inductance: 15.0 µH; ComponentLink1Description: Manufacturer; ComponentLink1URL: http://www.we-online.de; Created by: Christin Zierenner; Created Date: July 2009; ComponentLink2Description: Datasheet; ComponentLink2URL: http://www.we-online.de/katalog/media/pdf/744052150.pdf
footprint WE-TPC 5818, L (SMD Inductor, 2-Leads, Body 5,8x5,8mm)
pins: 1, 2

## WE-TPC 5818, L, 744052180
designator L?, comment 18.0 µH
SMD Shielded Tiny Power Inductor WE-TPC, L=18.0 µH; partNo: 744052180; Manufacturer: Würth Elektronik eiSos GmbH; Inductance: 18.0 µH; ComponentLink1Description: Manufacturer; ComponentLink1URL: http://www.we-online.de; Created by: Christin Zierenner; Created Date: July 2009; ComponentLink2Description: Datasheet; ComponentLink2URL: http://www.we-online.de/katalog/media/pdf/744052180.pdf
footprint WE-TPC 5818, L (SMD Inductor, 2-Leads, Body 5,8x5,8mm)
pins: 1, 2

## WE-TPC 5818, L, 744052220
designator L?, comment 22.0 µH
SMD Shielded Tiny Power Inductor WE-TPC, L=22.0 µH; partNo: 744052220; Manufacturer: Würth Elektronik eiSos GmbH; Inductance: 22.0 µH; ComponentLink1Description: Manufacturer; ComponentLink1URL: http://www.we-online.de; Created by: Christin Zierenner; Created Date: July 2009; ComponentLink2Description: Datasheet; ComponentLink2URL: http://www.we-online.de/katalog/media/pdf/744052220.pdf
footprint WE-TPC 5818, L (SMD Inductor, 2-Leads, Body 5,8x5,8mm)
pins: 1, 2

## WE-TPC 5818, L, 744052221
designator L?, comment 220 µH
SMD Shielded Tiny Power Inductor WE-TPC, L=220 µH; partNo: 744052221; Manufacturer: Würth Elektronik eiSos GmbH; Inductance: 220 µH; ComponentLink1Description: Manufacturer; ComponentLink1URL: http://www.we-online.de; Created by: Christin Zierenner; Created Date: July 2009; ComponentLink2Description: Datasheet; ComponentLink2URL: http://www.we-online.de/katalog/media/pdf/744052221.pdf
footprint WE-TPC 5818, L (SMD Inductor, 2-Leads, Body 5,8x5,8mm)
pins: 1, 2

## WE-TPC 5818, L, 744052470
designator L?, comment 47.0 µH
SMD Shielded Tiny Power Inductor WE-TPC, L=47.0 µH; partNo: 744052470; Manufacturer: Würth Elektronik eiSos GmbH; Inductance: 47.0 µH; ComponentLink1Description: Manufacturer; ComponentLink1URL: http://www.we-online.de; Created by: Christin Zierenner; Created Date: July 2009; ComponentLink2Description: Datasheet; ComponentLink2URL: http://www.we-online.de/katalog/media/pdf/744052470.pdf
footprint WE-TPC 5818, L (SMD Inductor, 2-Leads, Body 5,8x5,8mm)
pins: 1, 2

## WE-TPC 5818, L, 744052471
designator L?, comment 470 µH
SMD Shielded Tiny Power Inductor WE-TPC, L=470 µH; partNo: 744052471; Manufacturer: Würth Elektronik eiSos GmbH; Inductance: 470 µH; ComponentLink1Description: Manufacturer; ComponentLink1URL: http://www.we-online.de; Created by: Christin Zierenner; Created Date: July 2009; ComponentLink2Description: Datasheet; ComponentLink2URL: http://www.we-online.de/katalog/media/pdf/744052471.pdf
footprint WE-TPC 5818, L (SMD Inductor, 2-Leads, Body 5,8x5,8mm)
pins: 1, 2

## WE-TPC 5818, L, 744052680
designator L?, comment 68.0 µH
SMD Shielded Tiny Power Inductor WE-TPC, L=68.0 µH; partNo: 744052680; Manufacturer: Würth Elektronik eiSos GmbH; Inductance: 68.0 µH; ComponentLink1Description: Manufacturer; ComponentLink1URL: http://www.we-online.de; Created by: Christin Zierenner; Created Date: July 2009; ComponentLink2Description: Datasheet; ComponentLink2URL: http://www.we-online.de/katalog/media/pdf/744052680.pdf
footprint WE-TPC 5818, L (SMD Inductor, 2-Leads, Body 5,8x5,8mm)
pins: 1, 2

## WE-TPC 5818, L, 7440520012
designator L?, comment 1.20 µH
SMD Shielded Tiny Power Inductor WE-TPC, L=1.20 µH; partNo: 7440520012; Manufacturer: Würth Elektronik eiSos GmbH; Inductance: 1.20 µH; ComponentLink1Description: Manufacturer; ComponentLink1URL: http://www.we-online.de; Created by: Christin Zierenner; Created Date: July 2009; ComponentLink2Description: Datasheet; ComponentLink2URL: http://www.we-online.de/katalog/media/pdf/7440520012.pdf
footprint WE-TPC 5818, L (SMD Inductor, 2-Leads, Body 5,8x5,8mm)
pins: 1, 2

## WE-TPC 5818, L, 7440520018
designator L?, comment 1.80 µH
SMD Shielded Tiny Power Inductor WE-TPC, L=1.80 µH; partNo: 7440520018; Manufacturer: Würth Elektronik eiSos GmbH; Inductance: 1.80 µH; ComponentLink1Description: Manufacturer; ComponentLink1URL: http://www.we-online.de; Created by: Christin Zierenner; Created Date: July 2009; ComponentLink2Description: Datasheet; ComponentLink2URL: http://www.we-online.de/katalog/media/pdf/7440520018.pdf
footprint WE-TPC 5818, L (SMD Inductor, 2-Leads, Body 5,8x5,8mm)
pins: 1, 2

## WE-TPC 5818, L, 7440520039
designator L?, comment 3.90 µH
SMD Shielded Tiny Power Inductor WE-TPC, L=3.90 µH; partNo: 7440520039; Manufacturer: Würth Elektronik eiSos GmbH; Inductance: 3.90 µH; ComponentLink1Description: Manufacturer; ComponentLink1URL: http://www.we-online.de; Created by: Christin Zierenner; Created Date: July 2009; ComponentLink2Description: Datasheet; ComponentLink2URL: http://www.we-online.de/katalog/media/pdf/7440520039.pdf
footprint WE-TPC 5818, L (SMD Inductor, 2-Leads, Body 5,8x5,8mm)
pins: 1, 2


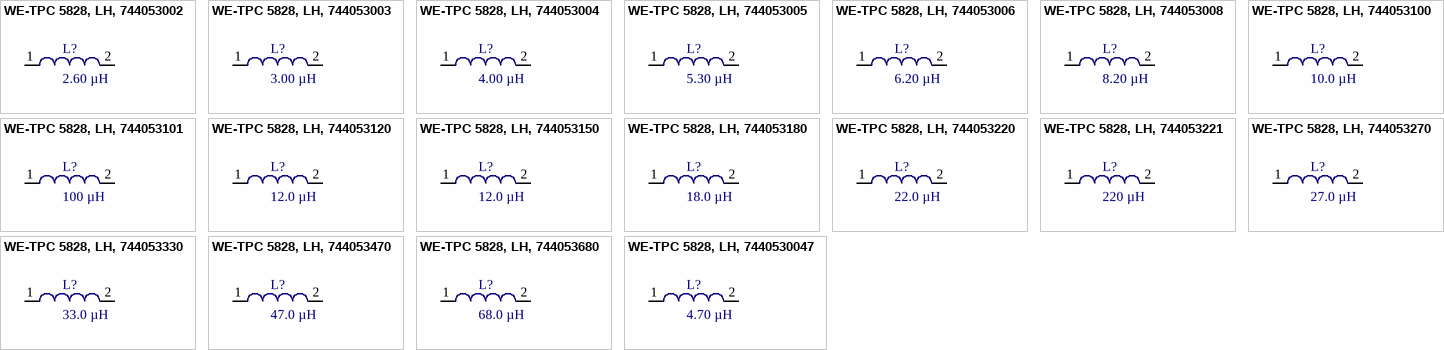
[diagram p10: symbols WE-TPC 5828, LH, 744053002 to WE-TPC 5828, LH, 7440530047]

## WE-TPC 5828, LH, 744053002
designator L?, comment 2.60 µH
SMD Shielded Tiny Power Inductor WE-TPC, L=2.60 µH; partNo: 744053002; Manufacturer: Würth Elektronik eiSos GmbH; Inductance: 2.60 µH; ComponentLink1Description: Manufacturer; ComponentLink1URL: http://www.we-online.de; Created by: Christin Zierenner; Created Date: July 2009; ComponentLink2Description: ComponentLink2Description; ComponentLink2URL: http://www.we-online.de/katalog/media/pdf/744053002.pdf
footprint WE-TPC 5828, LH (SMD Inductor, 2-Leads, Body 5,8x5,8mm)
pins: 1, 2

## WE-TPC 5828, LH, 744053003
designator L?, comment 3.00 µH
SMD Shielded Tiny Power Inductor WE-TPC, L=3.00 µH; partNo: 744053003; Manufacturer: Würth Elektronik eiSos GmbH; Inductance: 3.00 µH; ComponentLink1Description: Manufacturer; ComponentLink1URL: http://www.we-online.de; Created by: Christin Zierenner; Created Date: July 2009; ComponentLink2Description: ComponentLink2Description; ComponentLink2URL: http://www.we-online.de/katalog/media/pdf/744053003.pdf
footprint WE-TPC 5828, LH (SMD Inductor, 2-Leads, Body 5,8x5,8mm)
pins: 1, 2

## WE-TPC 5828, LH, 744053004
designator L?, comment 4.00 µH
SMD Shielded Tiny Power Inductor WE-TPC, L=4.00 µH; partNo: 744053004; Manufacturer: Würth Elektronik eiSos GmbH; Inductance: 4.00 µH; ComponentLink1Description: Manufacturer; ComponentLink1URL: http://www.we-online.de; Created by: Christin Zierenner; Created Date: July 2009; ComponentLink2Description: ComponentLink2Description; ComponentLink2URL: http://www.we-online.de/katalog/media/pdf/744053004.pdf
footprint WE-TPC 5828, LH (SMD Inductor, 2-Leads, Body 5,8x5,8mm)
pins: 1, 2

## WE-TPC 5828, LH, 744053005
designator L?, comment 5.30 µH
SMD Shielded Tiny Power Inductor WE-TPC, L=5.30 µH; partNo: 744053005; Manufacturer: Würth Elektronik eiSos GmbH; Inductance: 5.30 µH; ComponentLink1Description: Manufacturer; ComponentLink1URL: http://www.we-online.de; Created by: Christin Zierenner; Created Date: July 2009; ComponentLink2Description: ComponentLink2Description; ComponentLink2URL: http://www.we-online.de/katalog/media/pdf/744053005.pdf
footprint WE-TPC 5828, LH (SMD Inductor, 2-Leads, Body 5,8x5,8mm)
pins: 1, 2

## WE-TPC 5828, LH, 744053006
designator L?, comment 6.20 µH
SMD Shielded Tiny Power Inductor WE-TPC, L=6.20 µH; partNo: 744053006; Manufacturer: Würth Elektronik eiSos GmbH; Inductance: 6.20 µH; ComponentLink1Description: Manufacturer; ComponentLink1URL: http://www.we-online.de; Created by: Christin Zierenner; Created Date: July 2009; ComponentLink2Description: ComponentLink2Description; ComponentLink2URL: http://www.we-online.de/katalog/media/pdf/744053006.pdf
footprint WE-TPC 5828, LH (SMD Inductor, 2-Leads, Body 5,8x5,8mm)
pins: 1, 2

## WE-TPC 5828, LH, 744053008
designator L?, comment 8.20 µH
SMD Shielded Tiny Power Inductor WE-TPC, L=8.20 µH; partNo: 744053008; Manufacturer: Würth Elektronik eiSos GmbH; Inductance: 8.20 µH; ComponentLink1Description: Manufacturer; ComponentLink1URL: http://www.we-online.de; Created by: Christin Zierenner; Created Date: July 2009; ComponentLink2Description: ComponentLink2Description; ComponentLink2URL: http://www.we-online.de/katalog/media/pdf/744053008.pdf
footprint WE-TPC 5828, LH (SMD Inductor, 2-Leads, Body 5,8x5,8mm)
pins: 1, 2

## WE-TPC 5828, LH, 744053100
designator L?, comment 10.0 µH
SMD Shielded Tiny Power Inductor WE-TPC, L=10.0 µH; partNo: 744053100; Manufacturer: Würth Elektronik eiSos GmbH; Inductance: 10.0 µH; ComponentLink1Description: Manufacturer; ComponentLink1URL: http://www.we-online.de; Created by: Christin Zierenner; Created Date: July 2009; ComponentLink2Description: ComponentLink2Description; ComponentLink2URL: http://www.we-online.de/katalog/media/pdf/744053100.pdf
footprint WE-TPC 5828, LH (SMD Inductor, 2-Leads, Body 5,8x5,8mm)
pins: 1, 2

## WE-TPC 5828, LH, 744053101
designator L?, comment 100 µH
SMD Shielded Tiny Power Inductor WE-TPC, L=100 µH; partNo: 744053101; Manufacturer: Würth Elektronik eiSos GmbH; Inductance: 100 µH; ComponentLink1Description: Manufacturer; ComponentLink1URL: http://www.we-online.de; Created by: Christin Zierenner; Created Date: July 2009; ComponentLink2Description: ComponentLink2Description; ComponentLink2URL: http://www.we-online.de/katalog/media/pdf/744053101.pdf
footprint WE-TPC 5828, LH (SMD Inductor, 2-Leads, Body 5,8x5,8mm)
pins: 1, 2

## WE-TPC 5828, LH, 744053120
designator L?, comment 12.0 µH
SMD Shielded Tiny Power Inductor WE-TPC, L=12.0 µH; partNo: 744053120; Manufacturer: Würth Elektronik eiSos GmbH; Inductance: 12.0 µH; ComponentLink1Description: Manufacturer; ComponentLink1URL: http://www.we-online.de; Created by: Christin Zierenner; Created Date: July 2009; ComponentLink2Description: ComponentLink2Description; ComponentLink2URL: http://www.we-online.de/katalog/media/pdf/744053120.pdf
footprint WE-TPC 5828, LH (SMD Inductor, 2-Leads, Body 5,8x5,8mm)
pins: 1, 2

## WE-TPC 5828, LH, 744053150
designator L?, comment 12.0 µH
SMD Shielded Tiny Power Inductor WE-TPC, L=15.0 µH; partNo: 744053150; Manufacturer: Würth Elektronik eiSos GmbH; Inductance: 12.0 µH; ComponentLink1Description: Manufacturer; ComponentLink1URL: http://www.we-online.de; Created by: Christin Zierenner; Created Date: July 2009; ComponentLink2Description: ComponentLink2Description; ComponentLink2URL: http://www.we-online.de/katalog/media/pdf/744053150.pdf
footprint WE-TPC 5828, LH (SMD Inductor, 2-Leads, Body 5,8x5,8mm)
pins: 1, 2

## WE-TPC 5828, LH, 744053180
designator L?, comment 18.0 µH
SMD Shielded Tiny Power Inductor WE-TPC, L=18.0 µH; partNo: 744053180; Manufacturer: Würth Elektronik eiSos GmbH; Inductance: 18.0 µH; ComponentLink1Description: Manufacturer; ComponentLink1URL: http://www.we-online.de; Created by: Christin Zierenner; Created Date: July 2009; ComponentLink2Description: ComponentLink2Description; ComponentLink2URL: http://www.we-online.de/katalog/media/pdf/744053180.pdf
footprint WE-TPC 5828, LH (SMD Inductor, 2-Leads, Body 5,8x5,8mm)
pins: 1, 2

## WE-TPC 5828, LH, 744053220
designator L?, comment 22.0 µH
SMD Shielded Tiny Power Inductor WE-TPC, L=22.0 µH; partNo: 744053220; Manufacturer: Würth Elektronik eiSos GmbH; Inductance: 22.0 µH; ComponentLink1Description: Manufacturer; ComponentLink1URL: http://www.we-online.de; Created by: Christin Zierenner; Created Date: July 2009; ComponentLink2Description: ComponentLink2Description; ComponentLink2URL: http://www.we-online.de/katalog/media/pdf/744053220.pdf
footprint WE-TPC 5828, LH (SMD Inductor, 2-Leads, Body 5,8x5,8mm)
pins: 1, 2

## WE-TPC 5828, LH, 744053221
designator L?, comment 220 µH
SMD Shielded Tiny Power Inductor WE-TPC, L=220 µH; partNo: 744053221; Manufacturer: Würth Elektronik eiSos GmbH; Inductance: 220 µH; ComponentLink1Description: Manufacturer; ComponentLink1URL: http://www.we-online.de; Created by: Christin Zierenner; Created Date: July 2009; ComponentLink2Description: ComponentLink2Description; ComponentLink2URL: http://www.we-online.de/katalog/media/pdf/744053221.pdf
footprint WE-TPC 5828, LH (SMD Inductor, 2-Leads, Body 5,8x5,8mm)
pins: 1, 2

## WE-TPC 5828, LH, 744053270
designator L?, comment 27.0 µH
SMD Shielded Tiny Power Inductor WE-TPC, L=27.0 µH; partNo: 744053270; Manufacturer: Würth Elektronik eiSos GmbH; Inductance: 27.0 µH; ComponentLink1Description: Manufacturer; ComponentLink1URL: http://www.we-online.de; Created by: Christin Zierenner; Created Date: July 2009; ComponentLink2Description: ComponentLink2Description; ComponentLink2URL: http://www.we-online.de/katalog/media/pdf/744053270.pdf
footprint WE-TPC 5828, LH (SMD Inductor, 2-Leads, Body 5,8x5,8mm)
pins: 1, 2

## WE-TPC 5828, LH, 744053330
designator L?, comment 33.0 µH
SMD Shielded Tiny Power Inductor WE-TPC, L=33.0 µH; partNo: 744053330; Manufacturer: Würth Elektronik eiSos GmbH; Inductance: 33.0 µH; ComponentLink1Description: Manufacturer; ComponentLink1URL: http://www.we-online.de; Created by: Christin Zierenner; Created Date: July 2009; ComponentLink2Description: ComponentLink2Description; ComponentLink2URL: http://www.we-online.de/katalog/media/pdf/744053330.pdf
footprint WE-TPC 5828, LH (SMD Inductor, 2-Leads, Body 5,8x5,8mm)
pins: 1, 2

## WE-TPC 5828, LH, 744053470
designator L?, comment 47.0 µH
SMD Shielded Tiny Power Inductor WE-TPC, L=47.0 µH; partNo: 744053470; Manufacturer: Würth Elektronik eiSos GmbH; Inductance: 47.0 µH; ComponentLink1Description: Manufacturer; ComponentLink1URL: http://www.we-online.de; Created by: Christin Zierenner; Created Date: July 2009; ComponentLink2Description: ComponentLink2Description; ComponentLink2URL: http://www.we-online.de/katalog/media/pdf/744053470.pdf
footprint WE-TPC 5828, LH (SMD Inductor, 2-Leads, Body 5,8x5,8mm)
pins: 1, 2

## WE-TPC 5828, LH, 744053680
designator L?, comment 68.0 µH
SMD Shielded Tiny Power Inductor WE-TPC, L=68.0 µH; partNo: 744053680; Manufacturer: Würth Elektronik eiSos GmbH; Inductance: 68.0 µH; ComponentLink1Description: Manufacturer; ComponentLink1URL: http://www.we-online.de; Created by: Christin Zierenner; Created Date: July 2009; ComponentLink2Description: ComponentLink2Description; ComponentLink2URL: http://www.we-online.de/katalog/media/pdf/744053680.pdf
footprint WE-TPC 5828, LH (SMD Inductor, 2-Leads, Body 5,8x5,8mm)
pins: 1, 2